# EAGLE library part GP735 (library GPS_Pro_Mini_temp)
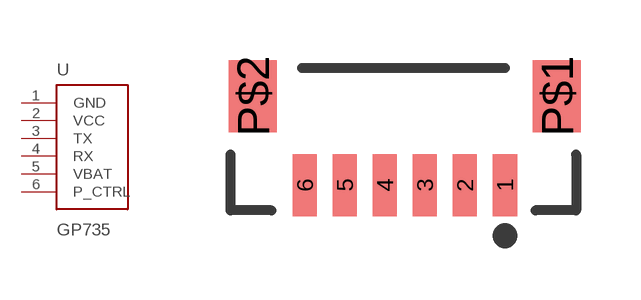
[diagram p1: symbol with the pads of GP735; footprint GP735]

Designator prefix U

## GP735 (PROD_ID: CONN-08249)  [GP735]
1  GND
2  VCC
3  TX
4  RX
5  VBAT
6  P_CTRL

## Footprint GP735 (pad centres in mm)
smd 0.6 x 1.55: 1 0,0; 2 -1,0; 3 -2,0; 4 -3,0; 5 -4,0; 6 -5,0
smd 1.2 x 1.8: P$1 1.3,2.225; P$2 -6.3,2.225